# Altium schematic symbol library BFN19.Schlib: 1 symbol
Pins are listed as number, name and electrical type; pins without a type are passive.

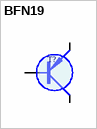
[diagram p0: symbol BFN19]

## BFN19
designator T?
SOT89   300V 0.2A 100MHz 2.5p(30V) (BFN18)
pins: 1 B, 2 C (oc), 3 E (oe)
1 alternate drawing of the same symbol